# EAGLE library part 74HC4078 (library Public)
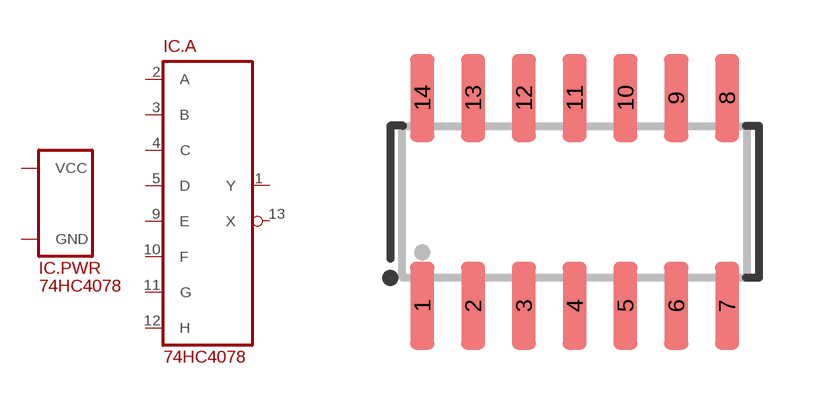
[diagram p87: symbol with the pads of SO14; footprint SO14]

Designator prefix IC; gates .PWR=SUPPLY_VCC/GND .A=OR_8

## 74HC4078  [SO14]
1  .A:Y
2  .A:A
3  .A:B
4  .A:C
5  .A:D
7  .PWR:GND
9  .A:E
10  .A:F
11  .A:G
12  .A:H
13  .A:X
14  .PWR:VCC

## Footprint SO14 (pad centres in mm)
smd 0.6 x 2.2: 1 -3.81,-2.6; 2 -2.54,-2.6; 3 -1.27,-2.6; 4 0,-2.6; 5 1.27,-2.6; 6 2.54,-2.6; 7 3.81,-2.6; 8 3.81,2.6; 9 2.54,2.6; 10 1.27,2.6; 11 0,2.6; 12 -1.27,2.6; 13 -2.54,2.6; 14 -3.81,2.6